# EAGLE library part TAGCONNECT-SWD6-NL (library johnmamish-tagconnect)
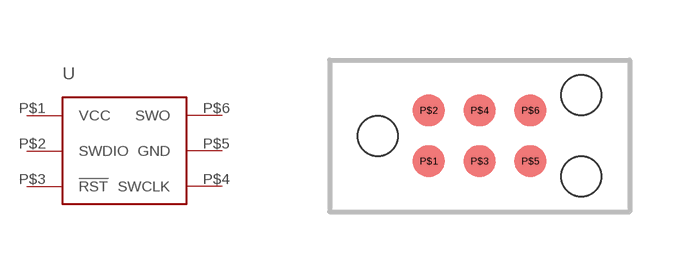
[diagram p0: symbol with the pads of TAGCONNECT-SWD6; footprint TAGCONNECT-SWD6]

Designator prefix -

## TAGCONNECT-SWD6-NL  [TAGCONNECT-SWD6]
P$1  VCC
P$2  SWDIO
P$3  !RST
P$4  SWCLK
P$5  GND
P$6  SWO

## Footprint TAGCONNECT-SWD6 (pad centres in mm)
smd 0.4 x 0.4: P$1 -1.27,-0.636; P$2 -1.27,0.636; P$3 0.001,-0.636; P$4 0.001,0.636; P$5 1.272,-0.636; P$6 1.272,0.636
hole 1 at -2.542,0
hole 1 at 2.542,1.016
hole 1 at 2.542,-1.016